# Altium schematic symbol library MDM-9.Schlib: 1 symbol
Pins are listed as number, name and electrical type; pins without a type are passive.

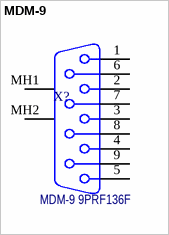
[diagram p0: symbol MDM-9]

## MDM-9
designator X?  Наименование: MDM-9 9PRF136F  (hidden comment: MDM-9)
Receptacle Assembly, 9 Position, Right Angle; Назначение: Соеденитель угловой на плату
footprint MDM-9
footprint M83513/13-A (Micro-D connector)
pins: 1, 2, 3, 4, 5, 6, 7, 8, 9, MH1, MH2